# Altium schematic symbol library CON7.SchLib: 1 symbol
Pins are listed as number, name and electrical type; pins without a type are passive.

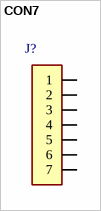
[diagram p0: symbol CON7]

## CON7
designator J?, comment 0527460771  (value not drawn)
ID: 0527460771; PDF: http://www.molex.com/pdm_docs/sd/527461971_sd.pdf; PRICE: 1.22000; BUY_LINK: http://www.digikey.com/product-detail/en/0527460771/WM8933CT-ND/3197362
footprint 0527460771
pins: 1, 2, 3, 4, 5, 6, 7